# Altium schematic symbol library Schematics.SchLib: 1 symbol
Pins are listed as number, name and electrical type; pins without a type are passive.

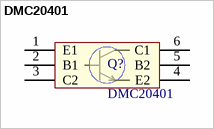
[diagram p0: symbol DMC20401]

## DMC20401
designator Q?
DMC20401 NPN transistor pair in sot23-6 package
footprint LC-SOT-23-6
pins: 1 E1, 2 B1, 3 C2, 4 E2, 5 B2, 6 C1